# EAGLE library part 503480-1200 (library MOLEX12)
0.50mm Pitch Easy-On™ Type FFC/FPC Connector, Right Angle, Surface Mount, ZIF, Bottom Contact Style, Cable Retention Guide, 12 Circuits
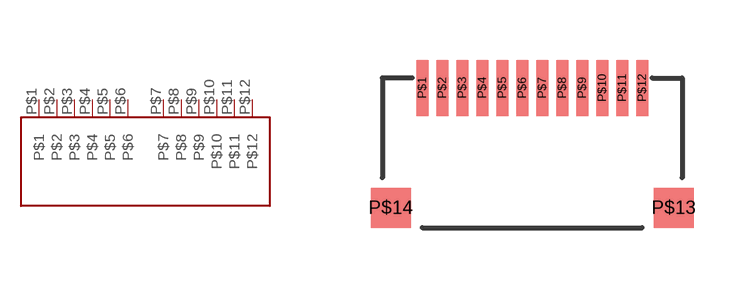
[diagram p0: symbol with the pads of 503480-1200; footprint 503480-1200]

Designator prefix CONN

## 503480-1200  [503480-1200]
P$1  P$1
P$2  P$2
P$3  P$3
P$4  P$4
P$5  P$5
P$6  P$6
P$7  P$7
P$8  P$8
P$9  P$9
P$10  P$10
P$11  P$11
P$12  P$12

## Footprint 503480-1200 (pad centres in mm)
smd 0.3 x 1.4: P$1 -2.75,0.75; P$2 -2.25,0.75; P$3 -1.75,0.75; P$4 -1.25,0.75; P$5 -0.75,0.75; P$6 -0.25,0.75; P$7 0.25,0.75; P$8 0.75,0.75; P$9 1.25,0.75; P$10 1.75,0.75; P$11 2.25,0.75; P$12 2.75,0.75
smd 1 x 1: P$13 3.54,-2.25; P$14 -3.54,-2.25